# Altium schematic symbol library GRM155R61E105KA12D.SchLib: 1 symbol
Pins are listed as number, name and electrical type; pins without a type are passive.

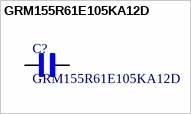
[diagram p0: symbol GRM155R61E105KA12D]

## GRM155R61E105KA12D
designator C?
1 ÂµF Â±10% 25V Ceramic Capacitor X5R 0402 (1005 Metric); MF: Murata; SnapEDA_Link: https://www.snapeda.com/parts/GRM155R61E105KA12D/Murata/view-part/?ref=snap; Package: 1005-2 Murata; Value: *; MPN: GRM155R61E105KA12D; Check_prices: https://www.snapeda.com/parts/GRM155R61E105KA12D/Murata/view-part/?ref=eda
footprint CAPC1005X55N
pins: 1, 2